# Altium schematic symbol library SPV1040.SchLib: 1 symbol
Pins are listed as number, name and electrical type; pins without a type are passive.

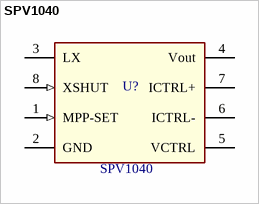
[diagram p0: symbol SPV1040]

## SPV1040
designator U?
Manufacturer: STM; Link mouser: http://www.mouser.de/ProductDetail/STMicroelectronics/SPV1040TTR/; Value: SPV1040
footprint SPV1040 (TSSOP8; 8-Leads, Body 3.00x4.40mm, Pitch 0.65mm, IPC Medium Density)
pins: 1 MPP-SET (in), 2 GND (power), 3 LX, 4 Vout, 5 VCTRL, 6 ICTRL-, 7 ICTRL+, 8 XSHUT (in)